# Altium footprint library QFN-FCMOD-11.PcbLib: 1 footprints
Each footprint in its own frame and in the unit in brackets; x right, y up, seen from the top. Pads: shape width x height; smd on the part's side, far side on the other; paste and mask are expansions set on the pad; w line width, h text height; cw(c..) or ccw(c..) is an arc to the next point about the centre after c.
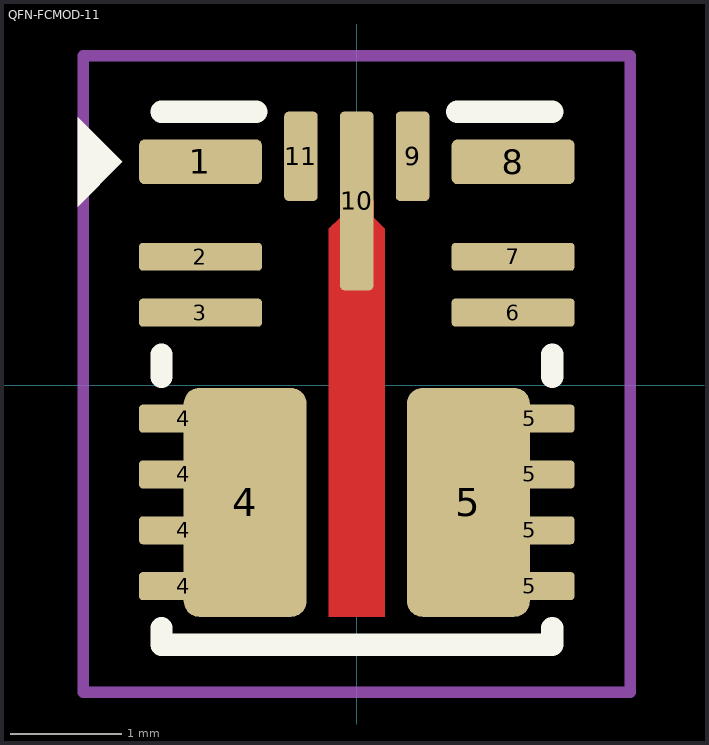
[diagram p0: the footprint, top view; thin cyan lines are the x and y axes]

## QFN-FCMOD-11 [mm]
pads (19):
  rrect25% 1.1x0.4 smd: 1(-1.4,2) 8(1.4,2)
  rrect25% 1.1x0.25 smd: 2(-1.4,1.15) 3(-1.4,0.65) 6(1.4,0.65) 7(1.4,1.15)
  rrect25% 0.8x0.25 smd: 4(-1.55,-1.8) 4(-1.55,-1.3) 4(-1.55,-0.8) 4(-1.55,-0.3) 5(1.55,-1.8) 5(1.55,-1.3) 5(1.55,-0.8) 5(1.55,-0.3)
  rrect25% 1.1x2.05 smd: 4(-1,-1.05) 5(1,-1.05)
  rrect25% 0.3x0.8 smd: 9(0.5,2.05) 11(-0.5,2.05)
  rrect25% 0.3x1.6 smd: 10(0,1.65)
Top Layer:
  region: 0.25,-2.075 -0.25,-2.075 -0.25,1.4 -0.15,1.5 -0.15,1.65 0.15,1.65 0.15,1.5 0.25,1.4
Top Overlay:
  region: -2.5,1.6 -2.5,2.4 -2.1,2
  lines w0.2: -1.75,-2.175 -1.75,-2.325 1.75,-2.325 1.75,-2.175 ; -1.75,0.075 -1.75,0.275 ; -1.75,2.45 -0.9,2.45 ; 0.9,2.45 1.75,2.45 ; 1.75,0.075 1.75,0.275
Top Courtyard:
  lines w0.1: -2.45,-2.75 -2.45,2.95 2.45,2.95 2.45,-2.75 -2.45,-2.75
3D body "TPSM33625RDNR--3DModel-STEP-269445.STEP": height 2.1, standoff 0, extent -1.75,-2.25 1.75,2.25